# Altium schematic symbol library DRV8316CT-Q1.Schlib: 1 symbol
Pins are listed as number, name and electrical type; pins without a type are passive.

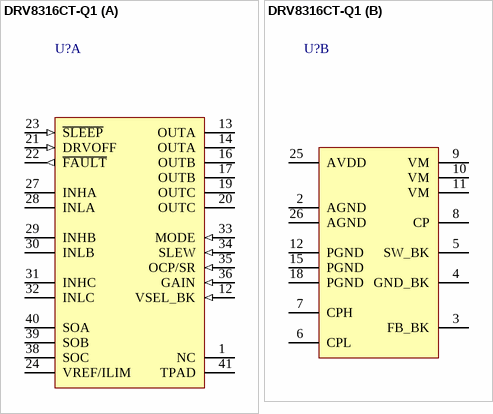
[diagram p0: symbol DRV8316CT-Q1]

## DRV8316CT-Q1
designator U?
40.0V, 8A, Three-Phase Motor Driver
part A pins: 1 NC, 12 VSEL_BK (in), 13 OUTA, 14 OUTA, 16 OUTB, 17 OUTB, 19 OUTC, 20 OUTC, 21 DRVOFF (in), 22 ~{FAULT} (out), 23 ~{SLEEP} (in), 24 VREF/ILIM, 27 INHA, 28 INLA, 29 INHB, 30 INLB, 31 INHC, 32 INLC (oc), 33 MODE (in), 34 SLEW (in), 35 OCP/SR (in), 36 GAIN (in), 38 SOC (power), 39 SOB, 40 SOA, 41 TPAD
part B pins: 2 AGND (power), 3 FB_BK, 4 GND_BK (power), 5 SW_BK, 6 CPL, 7 CPH, 8 CP, 9 VM (power), 10 VM (power), 11 VM (power), 12 PGND (power), 15 PGND (power), 18 PGND (power), 25 AVDD (power), 26 AGND (power)